# Altium schematic symbol library BSS138W.Schlib: 1 symbol
Pins are listed as number, name and electrical type; pins without a type are passive.

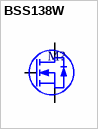
[diagram p0: symbol BSS138W]

## BSS138W
designator M?
60V 280mA N-Channel
pins: 1 G, 2 S, 3 D